# EAGLE library part VGA:AD600/2(40DB,35MHZ,DUAL) (library QuantumOptics)
AD600/602, Analog Devices, dual log amp. http://www.analog.com/en/prod/0,,759_787_AD602,00.html
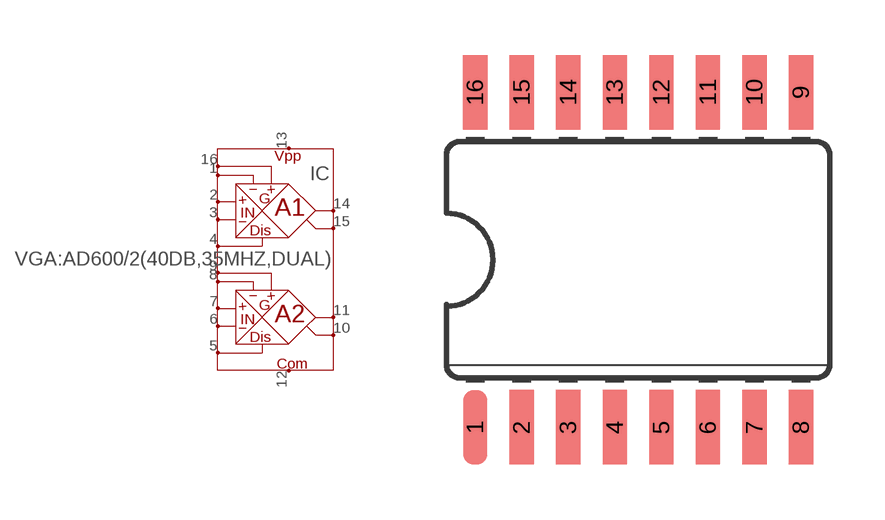
[diagram p82: symbol with the pads of SOIC-16W; footprint SOIC-16W]

Designator prefix IC

## VGA:AD600/2(40DB,35MHZ,DUAL)-SOIC16W  [SOIC-16W]
1  C1LO
2  A1HI
3  A1LO
4  GAT1
5  GAT2
6  A2LO
7  A2HI
8  C2LO
9  C2HI
10  A2CM
11  A2OP
12  VNEG
13  VPOS
14  A1OP
15  A1CM
16  C1HI

## Footprint SOIC-16W (pad centres in mm)
SOIC-16 Wide on 0.050" grid. http://www.analog.com/UploadedFiles/Packages/37806216RW_16.pdf
smd 0.66 x 2.032: 1 -6.35,-4.572; 2 -5.08,-4.572; 3 -3.81,-4.572; 4 -2.54,-4.572; 5 -1.27,-4.572; 6 0,-4.572; 7 1.27,-4.572; 8 2.54,-4.572; 9 2.54,4.572; 10 1.27,4.572; 11 0,4.572; 12 -1.27,4.572; 13 -2.54,4.572; 14 -3.81,4.572; 15 -5.08,4.572; 16 -6.35,4.572